# EAGLE library part TPS62171DSGR (library MF_IC_Power)
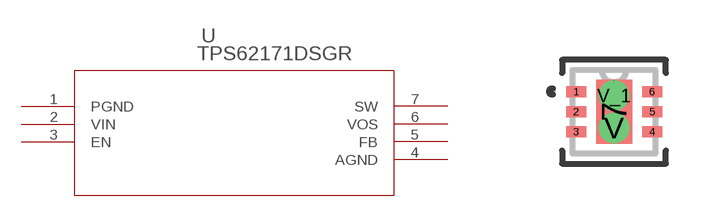
[diagram p9: symbol with the pads of DSG8_1P6X0P9; footprint DSG8_1P6X0P9]

Designator prefix U

## TPS62171DSGR (COPYRIGHT: Copyright (C) 2025 Ultra Librarian. All rights reserved.; MANUFACTURER_PART_NUMBER: TPS62171DSGR; MFR_NAME: Texas Instruments)  [DSG8_1P6X0P9]
1  PGND  pwr
2  VIN  in
3  EN  in
4  AGND  pwr
5  FB  in
6  VOS  in
7  SW  out

## Footprint DSG8_1P6X0P9 (pad centres in mm)
smd 0.5 x 0.28: 1 -0.95,0.5; 2 -0.95,0; 3 -0.95,-0.5; 4 0.95,-0.5; 5 0.95,0; 6 0.95,0.5
smd 0.9 x 1.6: 7 0,0
drill 0.254 pad 0.508: V 0,-0.406; V_1 0,0.406